# Altium integrated library ESP32-S3.IntLib: 1 symbol
Pins are listed as number, name and electrical type; pins without a type are passive.

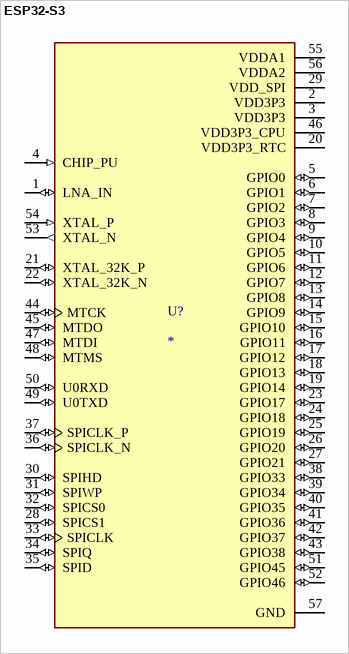
[diagram p0: symbol ESP32-S3]

## ESP32-S3
designator U?
IC RF TxRx + MCU Bluetooth, WiFi 802.11b/g/n, Bluetooth v5.0 2.412GHz ~ 2.484GHz 56-VFQFN Exposed Pad; MF: Espressif Systems; MP: ESP32-S3; Check_prices: https://www.snapeda.com/parts/ESP32-S3/Espressif+Systems/view-part/?ref=eda; Purchase-URL: https://pricing.snapeda.com/search/part/ESP32-S3/?ref=eda; Value: *; Availability: In Stock; Package: None; SnapEDA_Link: https://www.snapeda.com/parts/ESP32-S3/Espressif+Systems/view-part/?ref=snap; Price: None
footprint IC_ESP32-S3
pins: 1 LNA_IN (io), 2 VDD3P3 (power), 3 VDD3P3 (power), 4 CHIP_PU (in), 5 GPIO0 (io), 6 GPIO1 (io), 7 GPIO2 (io), 8 GPIO3 (io), 9 GPIO4 (io), 10 GPIO5 (io), 11 GPIO6 (io), 12 GPIO7 (io), 13 GPIO8 (io), 14 GPIO9 (io), 15 GPIO10 (io), 16 GPIO11 (io), 17 GPIO12 (io), 18 GPIO13 (io), 19 GPIO14 (io), 20 VDD3P3_RTC (power), 21 XTAL_32K_P (io), 22 XTAL_32K_N (io), 23 GPIO17 (io), 24 GPIO18 (io), 25 GPIO19 (io), 26 GPIO20 (io), 27 GPIO21 (io), 28 SPICS1 (io), 29 VDD_SPI (power), 30 SPIHD (io), 31 SPIWP (io), 32 SPICS0 (io), 33 SPICLK (io), 34 SPIQ (io), 35 SPID (io), 36 SPICLK_N (io), 37 SPICLK_P (io), 38 GPIO33 (io), 39 GPIO34 (io), 40 GPIO35 (io), 41 GPIO36 (io), 42 GPIO37 (io), 43 GPIO38 (io), 44 MTCK (io), 45 MTDO (io), 46 VDD3P3_CPU (power), 47 MTDI (io), 48 MTMS (io), 49 U0TXD (io), 50 U0RXD (io), 51 GPIO45 (io), 52 GPIO46 (io), 53 XTAL_N (out), 54 XTAL_P (in), 55 VDDA1 (power), 56 VDDA2 (power), 57 GND (power)